# Altium schematic symbol library Connectors.SchLib: 130 symbols
Pins are listed as number, name and electrical type; pins without a type are passive.

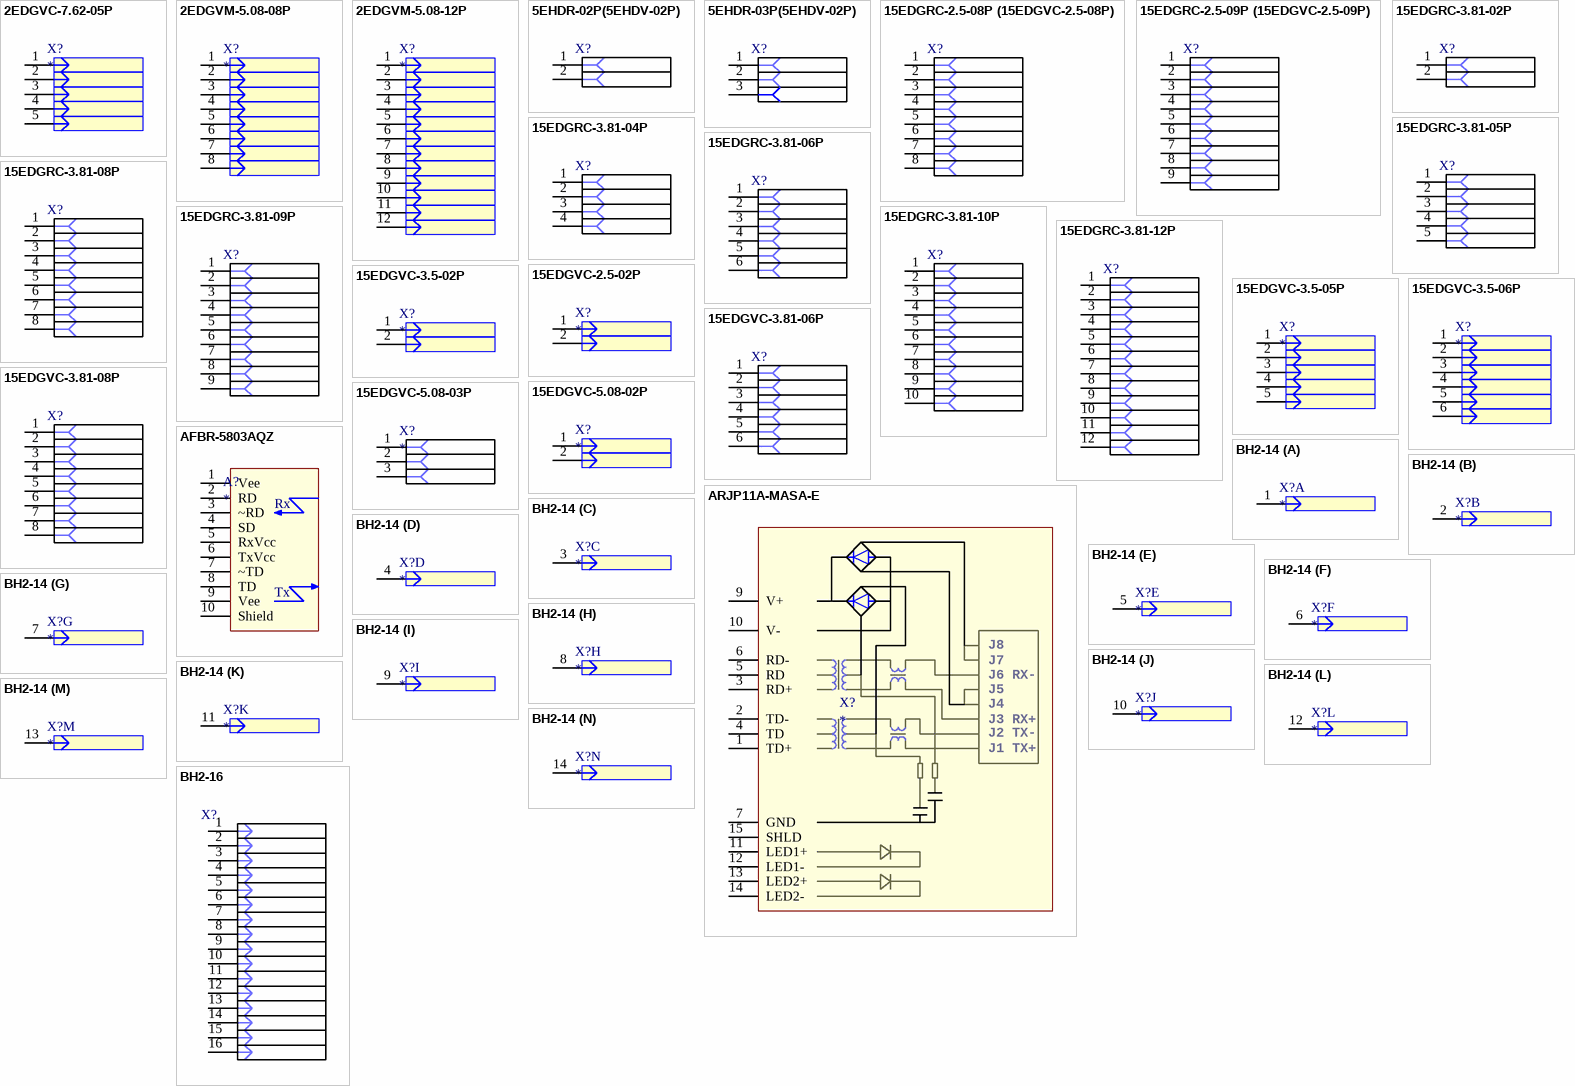
[diagram p0: symbols 2EDGVC-7.62-05P to BH2-16]

## 2EDGVC-7.62-05P
designator X?
CONNECTOR TERMINAL pitch=7.62mm; Part Number: Value; NumberSolderPointsSMD: 0; Описание: ???; Аналог: нет; NumberSolderPointsTHT: 0; Value: Value; ValueEx: ValueEx
footprint 2EDGVC-7.62-05P
pins: 1, 2, 3, 4, 5

## 2EDGVM-5.08-08P
designator X?
CONNECTOR TERMINAL pitch=5.08mm; Part Number: Value; Описание: ???; NumberSolderPointsSMD: 0; Аналог: нет; NumberSolderPointsTHT: 0; Value: Value; ValueEx: ValueEx
footprint 2EDGVM-5.08-08P
pins: 1, 2, 3, 4, 5, 6, 7, 8

## 2EDGVM-5.08-12P
designator X?
CONNECTOR TERMINAL pitch=5.08mm; Part Number: Value; Описание: ???; NumberSolderPointsSMD: 0; Аналог: нет; NumberSolderPointsTHT: 0; Value: Value; ValueEx: ValueEx
footprint 2EDGVM-5.08-12P
pins: 1, 2, 3, 4, 5, 6, 7, 8, 9, 10, 11, 12

## 5EHDR-02P(5EHDV-02P)
designator X?
CONNECTOR TERMINAL pitch=5mm; Part Number: Value; Аналог: 5ESDV-02P, 2EDGK-5.0-02P; Описание: Клеммник разъемный 5мм; NumberSolderPointsSMD: 0; Комплект: 5EHDR-02P(2EDGV-5.0-02P); NumberSolderPointsTHT: 0; Value: Value; ValueEx: ValueEx
footprint 5EHDR-02P
pins: 1, 2

## 5EHDR-03P(5EHDV-02P)
designator X?
CONNECTOR TERMINAL pitch=5mm; Part Number: Value; Аналог: 5EHDR-03P(2EDGV-5.0-03P); Описание: Клеммник разъемный 5мм; NumberSolderPointsSMD: 0; Комплект: 5ESDV-03P, 2EDGK-5.0-03P; NumberSolderPointsTHT: 0; Value: Value; ValueEx: ValueEx
footprint 5EHDR-03P
pins: 1, 2, 3

## 15EDGRC-2.5-08P (15EDGVC-2.5-08P)
designator X?
CONNECTOR TERMINAL pitch=2.5mm; Part Number: Value; Аналог: ECH250R-08P (ECH250V-08P); Описание: Клеммник разъемный 2.5мм; NumberSolderPointsSMD: 0; Комплект: ESC250V-08P, 15EDGKD-2.5-08P; NumberSolderPointsTHT: 0; Value: Value; ValueEx: ValueEx
footprint 15EDGRC-2.5-08
pins: 1, 2, 3, 4, 5, 6, 7, 8

## 15EDGRC-2.5-09P (15EDGVC-2.5-09P)
designator X?
CONNECTOR TERMINAL pitch=2.5mm; Part Number: Value; Аналог: ECH250R-09P (ECH250V-09P); Описание: Клеммник разъемный 2.5мм; NumberSolderPointsSMD: 0; Комплект: ESC250V-09P, 15EDGKD-2.5-09P; NumberSolderPointsTHT: 0; Value: Value; ValueEx: ValueEx
footprint 15EDGRC-2.5-09
pins: 1, 2, 3, 4, 5, 6, 7, 8, 9

## 15EDGRC-3.81-02P
designator X?
CONNECTOR TERMINAL pitch=3.81mm; Part Number: Value; Аналог: ECH381R-02P; Описание: Клеммник разъемный 3.81мм; NumberSolderPointsSMD: 0; Комплект: EC381V-02P, 15EDGK-3.81-02; NumberSolderPointsTHT: 0; Value: Value; ValueEx: ValueEx
footprint 15EDGRC-3.81-02
pins: 1, 2

## 15EDGRC-3.81-04P
designator X?
CONNECTOR TERMINAL pitch=3.81mm; Part Number: Value; Аналог: ECH381R-04P; Описание: Клеммник разъемный 3.81мм; NumberSolderPointsSMD: 0; Комплект: EC381V-04P, 15EDGK-3.81-04; NumberSolderPointsTHT: 0; Value: Value; ValueEx: ValueEx
footprint 15EDGRC-3.81-04
pins: 1, 2, 3, 4

## 15EDGRC-3.81-05P
designator X?
CONNECTOR TERMINAL pitch=3.81mm; Part Number: Value; Аналог: ECH381R-05P; Описание: Клеммник разъемный 3.81мм; NumberSolderPointsSMD: 0; Комплект: EC381V-05P, 15EDGK-3.81-05; NumberSolderPointsTHT: 0; Value: Value; ValueEx: ValueEx
footprint 15EDGRC-3.81-05
pins: 1, 2, 3, 4, 5

## 15EDGRC-3.81-06P
designator X?
CONNECTOR TERMINAL pitch=3.81mm; Part Number: Value; Аналог: ECH381R-06P; Описание: Клеммник разъемный 3.81мм; NumberSolderPointsSMD: 0; Комплект: EC381V-06P, 15EDGK-3.81-06; NumberSolderPointsTHT: 0; Value: Value; ValueEx: ValueEx
footprint 15EDGRC-3.81-06
pins: 1, 2, 3, 4, 5, 6

## 15EDGRC-3.81-08P
designator X?
CONNECTOR TERMINAL pitch=3.81mm; Part Number: Value; Аналог: ECH381R-08P; Описание: Клеммник разъемный 3.81мм; NumberSolderPointsSMD: 0; Комплект: EC381V-08P, 15EDGK-3.81-08; NumberSolderPointsTHT: 0; Value: Value; ValueEx: ValueEx
footprint 15EDGRC-3.81-08
pins: 1, 2, 3, 4, 5, 6, 7, 8

## 15EDGRC-3.81-09P
designator X?
CONNECTOR TERMINAL pitch=3.81mm; Part Number: Value; Аналог: ECH381R-09P; Описание: Клеммник разъемный 3.81мм; NumberSolderPointsSMD: 0; Комплект: EC381V-09P, 15EDGK-3.81-09; NumberSolderPointsTHT: 0; Value: Value; ValueEx: ValueEx
footprint 15EDGRC-3.81-09
pins: 1, 2, 3, 4, 5, 6, 7, 8, 9

## 15EDGRC-3.81-10P
designator X?
CONNECTOR TERMINAL pitch=3.81mm; Part Number: Value; Аналог: ECH381R-10P; Описание: Клеммник разъемный 3.81мм; NumberSolderPointsSMD: 0; Комплект: EC381V-10P, 15EDGK-3.81-10; NumberSolderPointsTHT: 0; Value: Value; ValueEx: ValueEx
footprint 15EDGRC-3.81-10
pins: 1, 2, 3, 4, 5, 6, 7, 8, 9, 10

## 15EDGRC-3.81-12P
designator X?
CONNECTOR TERMINAL pitch=3.81mm; Part Number: Value; Аналог: ECH381R-12P; Описание: Клеммник разъемный 3.81мм; NumberSolderPointsSMD: 0; Комплект: EC381V-12P, 15EDGK-3.81-12; NumberSolderPointsTHT: 0; Value: Value; ValueEx: ValueEx
footprint 15EDGRC-3.81-12
pins: 1, 2, 3, 4, 5, 6, 7, 8, 9, 10, 11, 12

## 15EDGVC-2.5-02P
designator X?
CONNECTOR TERMINAL pitch=2.5mm; Part Number: Value; Описание: ???; NumberSolderPointsSMD: 0; Аналог: нет; NumberSolderPointsTHT: 0; Value: Value; ValueEx: ValueEx
footprint 15EDGVC-2.5-02P
pins: 1, 2

## 15EDGVC-3.5-02P
designator X?
CONNECTOR TERMINAL pitch=3.5mm; Part Number: Value; Описание: ???; NumberSolderPointsSMD: 0; Аналог: нет; NumberSolderPointsTHT: 0; Value: Value; ValueEx: ValueEx
footprint 15EDGVC-3.5-02P
pins: 1, 2

## 15EDGVC-3.5-05P
designator X?
CONNECTOR TERMINAL pitch=3.5mm; Part Number: Value; Описание: ???; NumberSolderPointsSMD: 0; Аналог: нет; NumberSolderPointsTHT: 0; Value: Value; ValueEx: ValueEx
footprint 15EDGVC-3.5-05P
pins: 1, 2, 3, 4, 5

## 15EDGVC-3.5-06P
designator X?
CONNECTOR TERMINAL pitch=3.5mm; Part Number: Value; Описание: ???; NumberSolderPointsSMD: 0; Аналог: нет; NumberSolderPointsTHT: 0; Value: Value; ValueEx: ValueEx
footprint 15EDGVC-3.5-06P
pins: 1, 2, 3, 4, 5, 6

## 15EDGVC-3.81-06P
designator X?
CONNECTOR TERMINAL pitch=3.81mm; Part Number: Value; Описание: ???; NumberSolderPointsSMD: 0; Аналог: нет; NumberSolderPointsTHT: 0; Value: Value; ValueEx: ValueEx
footprint 15EDGVC-3.81-06
pins: 1, 2, 3, 4, 5, 6

## 15EDGVC-3.81-08P
designator X?
CONNECTOR TERMINAL pitch=3.81mm; Part Number: Value; Описание: ???; NumberSolderPointsSMD: 0; Аналог: нет; NumberSolderPointsTHT: 0; Value: Value; ValueEx: ValueEx
pins: 1, 2, 3, 4, 5, 6, 7, 8

## 15EDGVC-5.08-02P
designator X?
CONNECTOR TERMINAL pitch=5.08mm; Part Number: Value; Описание: ???; NumberSolderPointsSMD: 0; Аналог: нет; NumberSolderPointsTHT: 0; Value: Value; ValueEx: ValueEx
footprint 15EDGVC-5.08-02P
pins: 1, 2

## 15EDGVC-5.08-03P
designator X?
CONNECTOR TERMINAL pitch=5.08mm; Part Number: Value; Описание: ???; NumberSolderPointsSMD: 0; Аналог: нет; NumberSolderPointsTHT: 0; Value: Value; ValueEx: ValueEx
footprint 15EDGVC-5.08-03P
pins: 1, 2, 3

## AFBR-5803AQZ
designator A?
CONNECTOR FIBER Fast Ethernet Transceiver with duplex SC connector; Part Number: Value; Описание: ???; NumberSolderPointsSMD: 0; Аналог: нет; NumberSolderPointsTHT: 0; Value: Value; ValueEx: ValueEx
footprint AFBR-5803AQZ
pins: 1 Vee, 2 RD, 3 ~RD, 4 SD, 5 RxVcc, 6 TxVcc, 7 ~TD, 8 TD, 9 Vee, 10 Shield
text: Rx; Tx

## ARJP11A-MASA-E
designator X?
CONNECTOR RJ45; Part Number: Value; Описание: ???; NumberSolderPointsSMD: 0; Аналог: нет; NumberSolderPointsTHT: 0; Value: Value; ValueEx: ValueEx
footprint ARJP11A-MASA-E
pins: 1 TD+, 2 TD-, 3 RD+, 4 TD, 5 RD, 6 RD-, 7 GND, 9 V+, 10 V-, 11 LED1+, 12 LED1-, 13 LED2+, 14 LED2-, 15 SHLD
text: J8; J7; J6 RX-; J5; J4; J3 RX+; J2 TX-; J1 TX+

## BH2-14
designator X?
CONNECTOR 2mm pitch , male; Part Number: Value; Описание: ???; NumberSolderPointsSMD: 0; Аналог: нет; NumberSolderPointsTHT: 0; Value: Value; ValueEx: ValueEx
footprint BH2-14
part A pins: 1
part B pins: 2
part C pins: 3
part D pins: 4  
part E pins: 5
part F pins: 6
part G pins: 7
part H pins: 8
part I pins: 9
part J pins: 10
part K pins: 11
part L pins: 12
part M pins: 13
part N pins: 14

## BH2-16
designator X?
CONNECTOR; Part Number: Value; Описание: ???; Value: Value; ValueEx: ValueEx
footprint BH2-16
pins: 1, 2, 3, 4, 5, 6, 7, 8, 9, 10, 11, 12, 13, 14, 15, 16

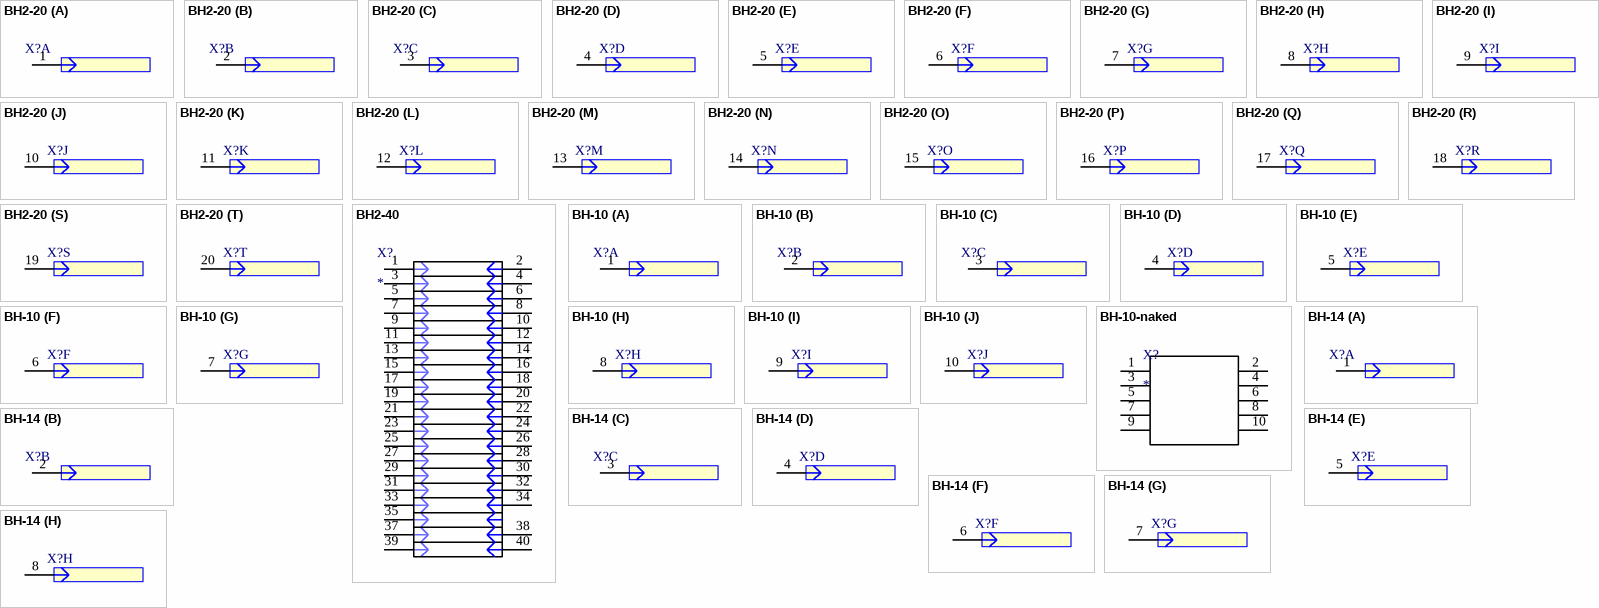
[diagram p1: symbols BH2-20 to BH-14]

## BH2-20
designator X?
CONNECTOR 2mm pitch , male; Part Number: Value; Описание: ???; NumberSolderPointsSMD: 0; Аналог: нет; NumberSolderPointsTHT: 0; Value: Value; ValueEx: ValueEx
footprint BH2-20
part A pins: 1
part B pins: 2
part C pins: 3
part D pins: 4
part E pins: 5
part F pins: 6
part G pins: 7
part H pins: 8
part I pins: 9
part J pins: 10
part K pins: 11
part L pins: 12
part M pins: 13
part N pins: 14
part O pins: 15
part P pins: 16
part Q pins: 17
part R pins: 18
part S pins: 19
part T pins: 20

## BH2-40
designator X?
CONNECTOR; Part Number: Value; Описание: ???; Value: Value; ValueEx: ValueEx
footprint BH2-40
pins: 1, 2, 3, 4, 5, 6, 7, 8, 9, 10, 11, 12, 13, 14, 15, 16, 17, 18, 19, 20, 21, 22, 23, 24, 25, 26, 27, 28, 29, 30, 31, 32, 33, 34, 35, 36 hidden, 37, 38, 39, 40

## BH-10
designator X?  (value not drawn)
CONNECTOR 2.54mm pitch , male; Part Number: Value; Описание: ???; NumberSolderPointsSMD: 0; Аналог: нет; NumberSolderPointsTHT: 0; Value: Value; ValueEx: ValueEx
footprint BH-10
part A pins: 1
part B pins: 2
part C pins: 3
part D pins: 4
part E pins: 5
part F pins: 6
part G pins: 7
part H pins: 8
part I pins: 9
part J pins: 10

## BH-10-naked
designator X?
CONNECTOR; Part Number: Value; Описание: Штыри 2x5 шаг 2.54мм; Value: Value; ValueEx: ValueEx
footprint BH-10 NAKED
pins: 1, 2, 3, 4, 5, 6, 7, 8, 9, 10

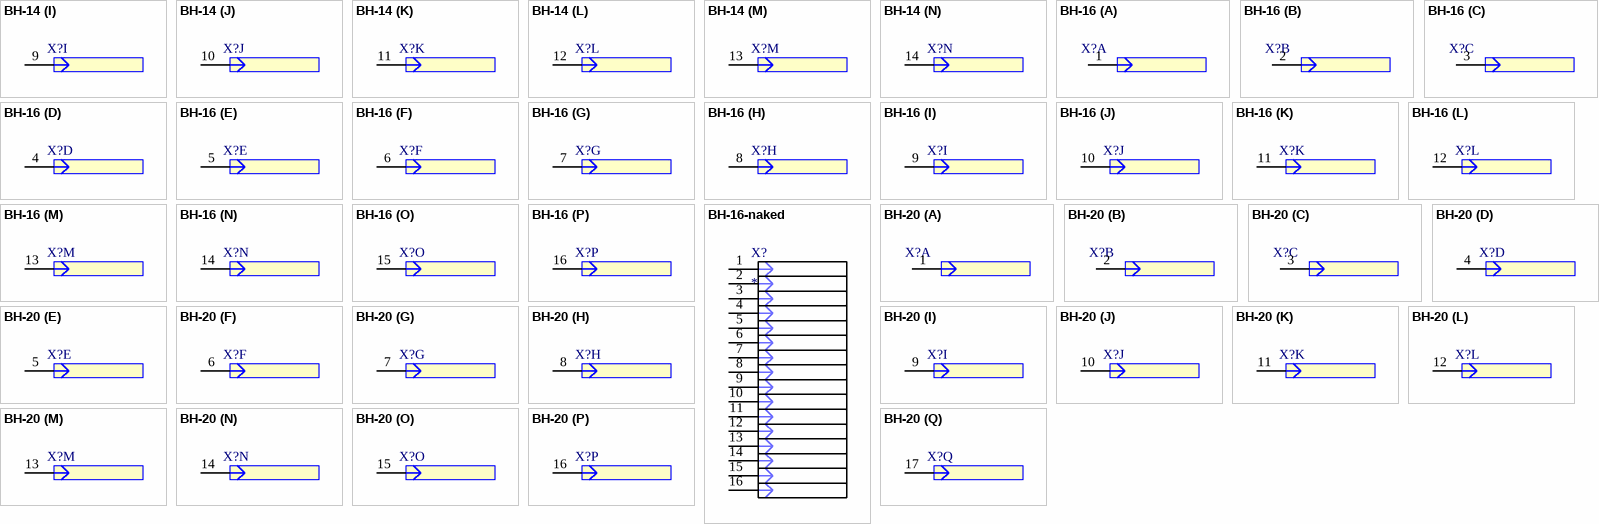
[diagram p2: symbols BH-14 to BH-20]

## BH-14
designator X?  (value not drawn)
CONNECTOR 2.54mm pitch , male; Part Number: Value; Описание: ???; NumberSolderPointsSMD: 0; Аналог: нет; NumberSolderPointsTHT: 0; Value: Value; ValueEx: ValueEx
footprint BH-14
part A pins: 1
part B pins: 2
part C pins: 3
part D pins: 4
part E pins: 5
part F pins: 6
part G pins: 7
part H pins: 8
part I pins: 9
part J pins: 10
part K pins: 11
part L pins: 12
part M pins: 13
part N pins: 14

## BH-16
designator X?  (value not drawn)
CONNECTOR 2.54mm pitch , male; Part Number: Value; Описание: ???; NumberSolderPointsSMD: 0; Аналог: нет; NumberSolderPointsTHT: 0; Value: Value; ValueEx: ValueEx
footprint BH-16
part A pins: 1
part B pins: 2
part C pins: 3
part D pins: 4
part E pins: 5
part F pins: 6
part G pins: 7
part H pins: 8
part I pins: 9
part J pins: 10
part K pins: 11
part L pins: 12
part M pins: 13
part N pins: 14
part O pins: 15
part P pins: 16

## BH-16-naked
designator X?
CONNECTOR; Part Number: Value; Описание: Штыри 2x8 шаг 2.54мм; Value: Value; ValueEx: ValueEx
footprint BH-16 NAKED
pins: 1, 2, 3, 4, 5, 6, 7, 8, 9, 10, 11, 12, 13, 14, 15, 16

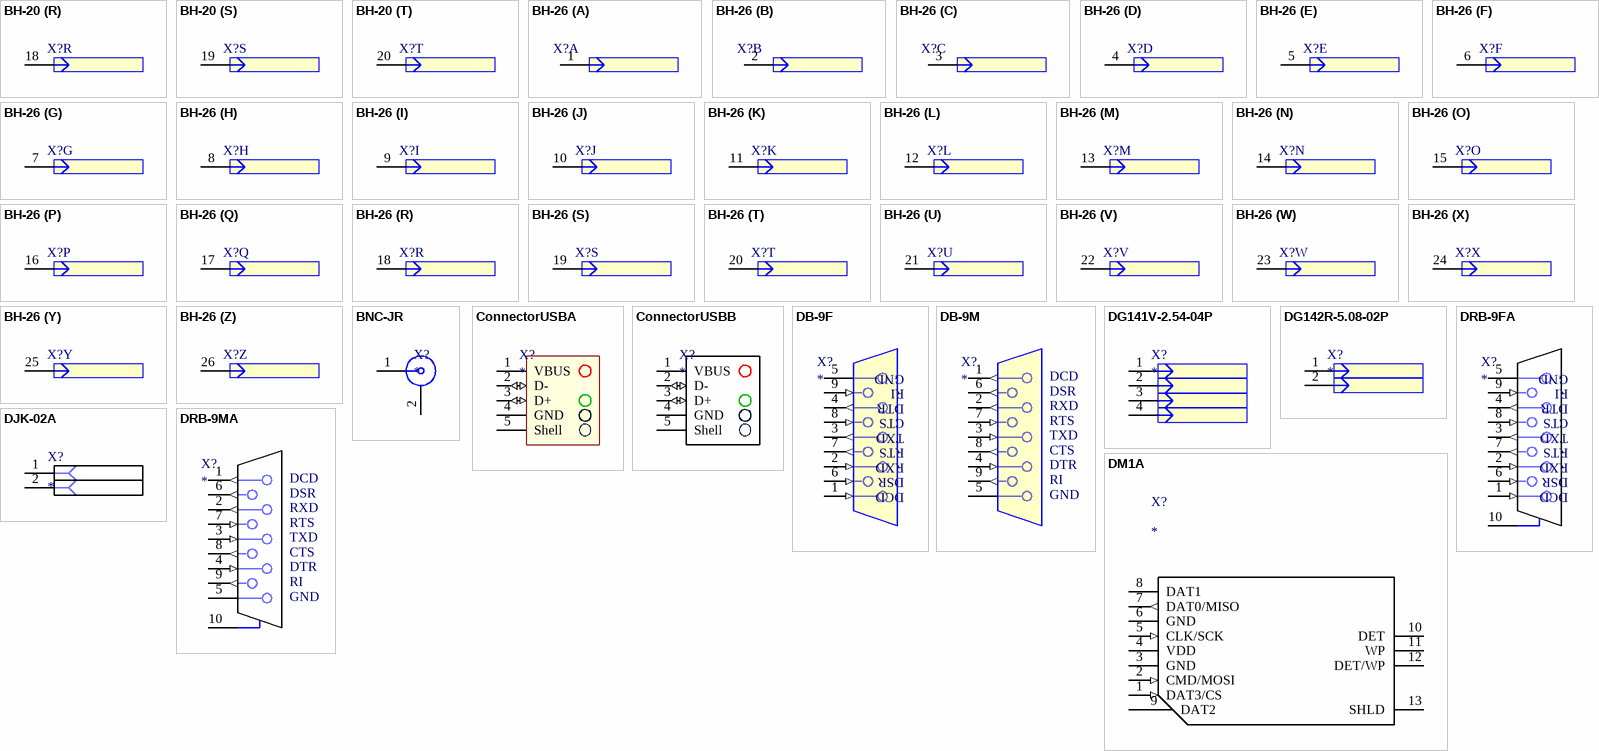
[diagram p3: symbols BH-20 to DRB-9MA]

## BH-20
designator X?
CONNECTOR 2.54mm pitch , male; Part Number: Value; Описание: ???; NumberSolderPointsSMD: 0; Аналог: нет; NumberSolderPointsTHT: 0; Value: Value; ValueEx: ValueEx
footprint BH-20
part A pins: 1
part B pins: 2
part C pins: 3
part D pins: 4
part E pins: 5
part F pins: 6
part G pins: 7
part H pins: 8
part I pins: 9
part J pins: 10
part K pins: 11
part L pins: 12
part M pins: 13
part N pins: 14
part O pins: 15
part P pins: 16
part Q pins: 17
part R pins: 18
part S pins: 19
part T pins: 20

## BH-26
designator X?
CONNECTOR 2.54mm pitch , male; Part Number: Value; Описание: ???; NumberSolderPointsSMD: 0; Аналог: нет; NumberSolderPointsTHT: 0; Value: Value; ValueEx: ValueEx
footprint BH-26
part A pins: 1
part B pins: 2
part C pins: 3
part D pins: 4
part E pins: 5
part F pins: 6
part G pins: 7
part H pins: 8
part I pins: 9
part J pins: 10
part K pins: 11
part L pins: 12
part M pins: 13
part N pins: 14
part O pins: 15
part P pins: 16
part Q pins: 17
part R pins: 18
part S pins: 19
part T pins: 20
part U pins: 21
part V pins: 22
part W pins: 23
part X pins: 24
part Y pins: 25
part Z pins: 26

## BNC-JR
designator X?
CONNECTOR BNC connector - angle plug; Part Number: Value; Описание: Разъем BNC; NumberSolderPointsSMD: 0; Аналог: нет; NumberSolderPointsTHT: 0; Value: Value; ValueEx: ValueEx
footprint BNC-JR
pins: 1, 2

## ConnectorUSBA
designator X?
CONNECTOR USB type A connector (through-hole); Part Number: Value; Описание: Разъем; NumberSolderPointsSMD: 0; Аналог: нет; NumberSolderPointsTHT: 0; Value: Value; ValueEx: ValueEx
footprint ConnectorUSBA
pins: 1 VBUS (power), 2 D- (io), 3 D+ (io), 4 GND (power), 5 Shell

## ConnectorUSBB
designator X?
CONNECTOR USB type B connector (through-hole); Part Number: Value; Описание: Разъем; NumberSolderPointsSMD: 0; Аналог: нет; NumberSolderPointsTHT: 0; Value: Value; ValueEx: ValueEx
footprint ConnectorUSBB
pins: 1 VBUS (power), 2 D- (io), 3 D+ (io), 4 GND (power), 5 Shell

## DB-9F
designator X?
CONNECTOR; Part Number: Value; Описание: ???; NumberSolderPointsSMD: 0; Аналог: нет; NumberSolderPointsTHT: 0; Value: Value; ValueEx: ValueEx
footprint DB-9F
pins: 1 (in), 2 (in), 3 (out), 4 (out), 5 (power), 6 (in), 7 (out), 8 (in), 9 (in)
text: GND; RI; DTR; CTS; TXD; RTS; RXD; DSR; DCD

## DB-9M
designator X?
CONNECTOR; Part Number: Value; Описание: ???; NumberSolderPointsSMD: 0; Аналог: нет; NumberSolderPointsTHT: 0; Value: Value; ValueEx: ValueEx
footprint DB-9M
pins: 1 (out), 2 (out), 3 (in), 4 (in), 5 (power), 6 (out), 7 (in), 8 (out), 9 (out)
text: DCD; DSR; RXD; RTS; TXD; CTS; DTR; RI; GND

## DG141V-2.54-04P
designator X?
CONNECTOR TERMINAL pitch=2.54mm; Part Number: Value; Описание: ???; NumberSolderPointsSMD: 0; Аналог: нет; NumberSolderPointsTHT: 0; Value: Value; ValueEx: ValueEx
footprint DG141V-2.54-04P
pins: 1, 2, 3, 4

## DG142R-5.08-02P
designator X?
CONNECTOR TERMINAL; Part Number: Value; Описание: ???; NumberSolderPointsSMD: 0; Аналог: нет; NumberSolderPointsTHT: 0; Value: Value; ValueEx: ValueEx
footprint DG142R-5.08-02P
pins: 1, 2

## DJK-02A
designator X?
CONNECTOR; Part Number: Value; Описание: Разъем питания; Value: Value; ValueEx: ValueEx
footprint DJK-02A
pins: 1, 2

## DM1A
designator X?
CONNECTOR SD card connector; Part Number: Value; Описание: ???; NumberSolderPointsSMD: 0; Аналог: нет; NumberSolderPointsTHT: 0; Value: Value; ValueEx: ValueEx
footprint DM1A (SD card connector)
pins: 1 DAT3/CS (in), 2 CMD/MOSI (in), 3 GND, 4 VDD, 5 CLK/SCK (in), 6 GND, 7 DAT0/MISO (out), 8 DAT1, 9 DAT2, 10 DET, 11 WP, 12 DET/WP, 13 SHLD

## DRB-9FA
designator X?
CONNECTOR; Part Number: Value; Описание: ???; NumberSolderPointsSMD: 0; Аналог: нет; NumberSolderPointsTHT: 0; Value: Value; ValueEx: ValueEx
footprint DRB-9FA
pins: 1 (in), 2 (in), 3 (out), 4 (out), 5 (power), 6 (in), 7 (out), 8 (in), 9 (in), 10
text: GND; RI; DTR; CTS; TXD; RTS; RXD; DSR; DCD

## DRB-9MA
designator X?
CONNECTOR; Part Number: Value; Описание: ???; NumberSolderPointsSMD: 0; Аналог: нет; NumberSolderPointsTHT: 0; Value: Value; ValueEx: ValueEx
footprint DRB-9MA
pins: 1 (out), 2 (out), 3 (in), 4 (in), 5 (power), 6 (out), 7 (in), 8 (out), 9 (out), 10
text: DCD; DSR; RXD; RTS; TXD; CTS; DTR; RI; GND

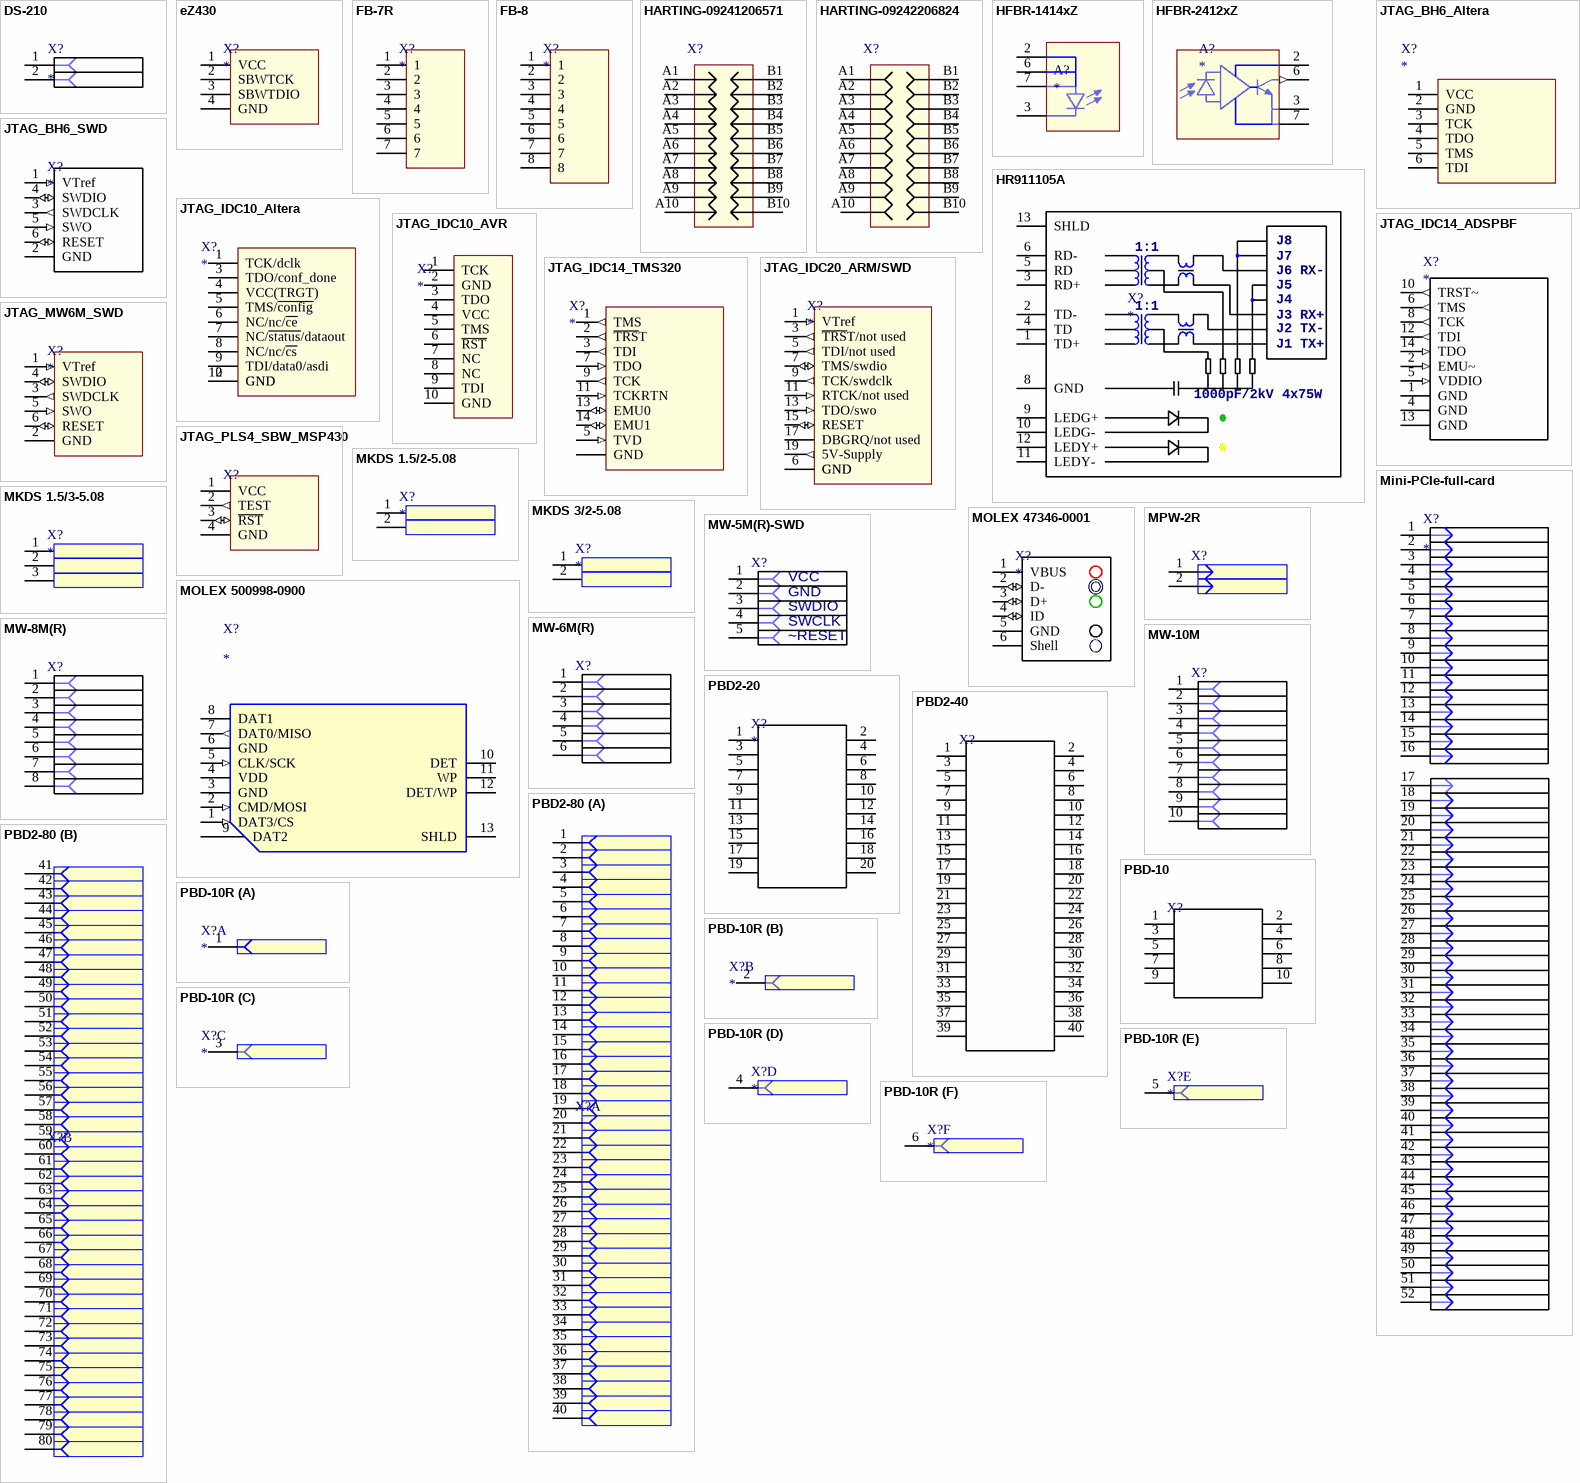
[diagram p4: symbols DS-210 to PBD-10R]

## DS-210
designator X?
CONNECTOR; Part Number: Value; Описание: Разъем питания DC; x: DS-210, DJK-02A; Value: Value; ValueEx: ValueEx
footprint DCPowerJack DS-210
pins: 1, 2

## eZ430
designator X?
CONNECTOR PROGRAM; Part Number: Value; Описание: ???; NumberSolderPointsSMD: 0; Аналог: нет; NumberSolderPointsTHT: 0; Value: Value; ValueEx: ValueEx
footprint eZ430
pins: 1 VCC, 2 SBWTCK, 3 SBWTDIO, 4 GND

## FB-7R
designator X?
CONNECTOR FFC pitch=2.54mm; Part Number: Value; Описание: ???; NumberSolderPointsSMD: 0; Аналог: нет; NumberSolderPointsTHT: 0; Value: Value; ValueEx: ValueEx
footprint FB-7R
pins: 1, 2, 3, 4, 5, 6, 7

## FB-8
designator X?
CONNECTOR FFC pitch=2.54mm; Part Number: Value; Описание: ???; NumberSolderPointsSMD: 0; Аналог: нет; NumberSolderPointsTHT: 0; Value: Value; ValueEx: ValueEx
footprint FB-8
pins: 1, 2, 3, 4, 5, 6, 7, 8

## HARTING-09241206571
designator X?  (value not drawn)
CONNECTOR DIN41612 20-pin male connector without flange; Part Number: Value; Описание: ???; NumberSolderPointsSMD: 0; Аналог: нет; NumberSolderPointsTHT: 0; Value: Value; ValueEx: ValueEx
footprint HARTING-09241206571
pins: A1  , A2  , A3  , A4  , A5  , A6  , A7  , A8  , A9  , A10  , B1  , B2  , B3  , B4  , B5  , B6  , B7  , B8  , B9  , B10  

## HARTING-09242206824
designator X?  (value not drawn)
CONNECTOR DIN41612 20-pin female connector with flange; Part Number: Value; Описание: ???; NumberSolderPointsSMD: 0; Аналог: нет; NumberSolderPointsTHT: 0; Value: Value; ValueEx: ValueEx
footprint HARTING-09242206824
pins: A1  , A2  , A3  , A4  , A5  , A6  , A7  , A8  , A9  , A10  , B1  , B2  , B3  , B4  , B5  , B6  , B7  , B8  , B9  , B10  

## HFBR-1414xZ
designator A?
CONNECTOR FIBER 820 nm ST-connector transmitter; Part Number: Value; Описание: ???; NumberSolderPointsSMD: 0; Аналог: нет; NumberSolderPointsTHT: 0; Value: Value; ValueEx: ValueEx
footprint HFBR-x41xZ
pins: 2, 3, 6, 7

## HFBR-2412xZ
designator A?
CONNECTOR FIBER 820 nm ST-connector receiver; Part Number: Value; Описание: ???; NumberSolderPointsSMD: 0; Аналог: нет; NumberSolderPointsTHT: 0; Value: Value; ValueEx: ValueEx
footprint HFBR-x41xZ
pins: 2 (power), 3 (power), 6 (out), 7 (power)

## HR911105A
designator X?
CONNECTOR RJ45; Part Number: Value; Описание: Разъем; NumberSolderPointsSMD: 0; Аналог: нет; NumberSolderPointsTHT: 0; Value: Value; ValueEx: ValueEx
footprint HR911105A
pins: 1 TD+, 2 TD-, 3 RD+, 4 TD, 5 RD, 6 RD-, 8 GND, 9 LEDG+, 10 LEDG-, 11 LEDY-, 12 LEDY+, 13 SHLD
text: J8; 1:1; J7; J6 RX-; J5; J4; J3 RX+; J2 TX-; J1 TX+; 1000pF/2kV; 4x75W

## JTAG_BH6_Altera
designator X?
CONNECTOR PROGRAM  Altera ByteBlaster 10-Pin Header JTAG/PS/AS; Part Number: Value; Описание: ???; NumberSolderPointsSMD: 0; Аналог: нет; NumberSolderPointsTHT: 0; Value: Value; ValueEx: ValueEx
footprint BH-6 Naked
pins: 1 VCC, 2 GND, 3 TCK, 4 TDO, 5 TMS, 6 TDI

## JTAG_BH6_SWD
designator X?
CONNECTOR PROGRAM 6-pin SWD connector; Part Number: Value; Описание: ???; NumberSolderPointsSMD: 0; Аналог: нет; NumberSolderPointsTHT: 0; Value: Value; ValueEx: ValueEx
footprint BH-6 Naked
pins: 1 VTref (in), 2 GND (power), 3 SWDCLK (out), 4 SWDIO (io), 5 SWO (in), 6 RESET (io)

## JTAG_IDC10_Altera
designator X?
CONNECTOR PROGRAM  Altera ByteBlaster 10-Pin Header JTAG/PS/AS; Part Number: Value; Описание: ???; NumberSolderPointsSMD: 0; Аналог: нет; NumberSolderPointsTHT: 0; Value: Value; ValueEx: ValueEx
footprint BH-10 NAKED
pins: 1 TCK/dclk, 2 GND, 3 TDO/conf_done, 4 VCC(TRGT), 5 TMS/~{config}, 6 NC/nc/~{ce}, 7 NC/~{status}/dataout, 8 NC/nc/~{cs}, 9 TDI/data0/asdi, 10 GND

## JTAG_IDC10_AVR
designator X?
CONNECTOR PROGRAM Atmel AVR 10-Pin Header JTAG (AVR-Dragon); Part Number: Value; Описание: ???; NumberSolderPointsSMD: 0; Аналог: нет; NumberSolderPointsTHT: 0; Value: Value; ValueEx: ValueEx
footprint BH-10
pins: 1 TCK, 2 GND, 3 TDO, 4 VCC, 5 TMS, 6 ~{RST}, 7 NC, 8 NC, 9 TDI, 10 GND

## JTAG_IDC14_ADSPBF
designator X?  (no BOM)
CONNECTOR PROGRAM 14-pin JTAG connector for ADSP Blackfin; Part Number: Value; Описание: ???; NumberSolderPointsSMD: 0; Аналог: нет; NumberSolderPointsTHT: 0; Value: Value; ValueEx: ValueEx
footprint JTAG_IDC14_ADSPBF
footprint JTAG_IDC14_ADSPBF(notSoldered)
pins: 1 GND (power), 2 EMU~ (in), 4 GND (power), 5 VDDIO (in), 6 TMS (out), 8 TCK (out), 10 TRST~ (out), 12 TDI (out), 13 GND (power), 14 TDO (in)

## JTAG_IDC14_TMS320
designator X?
CONNECTOR PROGRAM 14-pin JTAG connector for TMS320/OMAP; Part Number: Value; Описание: ???; NumberSolderPointsSMD: 0; Аналог: нет; NumberSolderPointsTHT: 0; Value: Value; ValueEx: ValueEx
footprint JTAG_IDC14_TMS320
pins: 1 TMS (out), 2 ~{TRS}T (out), 3 TDI (out), 4 GND (power), 5 TVD (in), 7 TDO (in), 8 GND, 9 TCK (out), 10 GND, 11 TCKRTN (in), 12 GND, 13 EMU0 (io), 14 EMU1 (io)

## JTAG_IDC20_ARM/SWD
designator X?
CONNECTOR PROGRAM 20-pin JTAG/SWD connector; Part Number: Value; Описание: ???; NumberSolderPointsSMD: 0; Аналог: нет; NumberSolderPointsTHT: 0; Value: Value; ValueEx: ValueEx
footprint BH-20
pins: 1 VTref (in), 3 ~{TRS}T/not used (out), 4 GND (power), 5 TDI/not used (out), 6 GND (power), 7 TMS/swdio (io), 8 GND (power), 9 TCK/swdclk (out), 10 GND (power), 11 RTCK/not used (in), 12 GND (power), 13 TDO/swo (in), 14 GND (power), 15 RESET (io), 16 GND (power), 17 DBGRQ/not used, 18 GND (power), 19 5V-Supply (out), 20 GND (power)

## JTAG_MW6M_SWD
designator X?
CONNECTOR PROGRAM 5-pin SWD connector; Part Number: Value; Описание: ???; NumberSolderPointsSMD: 0; Аналог: нет; NumberSolderPointsTHT: 0; Value: Value; ValueEx: ValueEx
footprint MW-6M
pins: 1 VTref (in), 2 GND (power), 3 SWDCLK (out), 4 SWDIO (io), 5 SWO (in), 6 RESET (io)

## JTAG_PLS4_SBW_MSP430
designator X?  (value not drawn)
CONNECTOR PROGRAM SBW for MSP430; Part Number: Value; Описание: ???; NumberSolderPointsSMD: 0; Аналог: нет; NumberSolderPointsTHT: 0; Value: Value; ValueEx: ValueEx
footprint PLS-4
pins: 1 VCC (power), 2 TEST (out), 3 ~{RST} (io), 4 GND (power)

## Mini-PCIe-full-card
designator X?  (no BOM)
CONNECTOR; Part Number: Value; Описание: Слот Mini-PCIe (full); Value: Value; ValueEx: ValueEx
footprint Mini-PCIe-full-card
pins: 1, 2, 3, 4, 5, 6, 7, 8, 9, 10, 11, 12, 13, 14, 15, 16, 17, 18, 19, 20, 21, 22, 23, 24, 25, 26, 27, 28, 29, 30, 31, 32, 33, 34, 35, 36, 37, 38, 39, 40, 41, 42, 43, 44, 45, 46, 47, 48, 49, 50, 51, 52

## MKDS 1.5/2-5.08
designator X?
CONNECTOR TERMINAL pitch=5.08mm; Part Number: Value; Описание: ???; NumberSolderPointsSMD: 0; Аналог: нет; NumberSolderPointsTHT: 0; Value: Value; ValueEx: ValueEx
footprint MKDS 1.5/2-5.08
pins: 1, 2

## MKDS 1.5/3-5.08
designator X?
CONNECTOR TERMINAL pitch=5.08mm; Part Number: Value; Описание: ???; NumberSolderPointsSMD: 0; Аналог: нет; NumberSolderPointsTHT: 0; Value: Value; ValueEx: ValueEx
footprint MKDS 1.5/3-5.08
pins: 1, 2, 3

## MKDS 3/2-5.08
designator X?
CONNECTOR TERMINAL pitch=5.08mm; Part Number: Value; Описание: ???; NumberSolderPointsSMD: 0; Аналог: нет; NumberSolderPointsTHT: 0; Value: Value; ValueEx: ValueEx
footprint MKDS 3/2-5.08
pins: 1, 2

## MOLEX 47346-0001
designator X?
CONNECTOR USB micro B; Part Number: Value; Описание: Разъем USB micro; NumberSolderPointsSMD: 0; Аналог: нет; NumberSolderPointsTHT: 0; x: *; Value: Value; ValueEx: ValueEx
footprint MOLEX 47346-0001
pins: 1 VBUS (power), 2 D- (io), 3 D+ (io), 4 ID (io), 5 GND, 6 Shell

## MOLEX 500998-0900
designator X?
CONNECTOR SD card connector; Part Number: Value; Описание: Разъем - держатель карты SD/MMC; NumberSolderPointsSMD: 0; Аналог: нет; NumberSolderPointsTHT: 0; Value: Value; ValueEx: ValueEx
footprint MOLEX 500998-0900
pins: 1 DAT3/CS (in), 2 CMD/MOSI (in), 3 GND, 4 VDD, 5 CLK/SCK (in), 6 GND, 7 DAT0/MISO (out), 8 DAT1, 9 DAT2, 10 DET, 11 WP, 12 DET/WP, 13 SHLD

## MPW-2R
designator X?  (value not drawn)
CONNECTOR 5.08mm; Part Number: Value; Описание: Разъем; NumberSolderPointsSMD: 0; Аналог: нет; NumberSolderPointsTHT: 0; Value: Value; ValueEx: ValueEx
footprint MPW-2R
pins: 1, 2

## MW-5M(R)-SWD
designator X?
CONNECTOR pitch=2mm; Part Number: Value; Описание: Разъем, вилка на плату, шаг 2.0мм; NumberSolderPointsSMD: 6; NumberSolderPointsTHT: 0; Аналог: нет; Комплект: MU-5F,DS1066-5 F; x: MW-5M,MW-5MR,DS1066-5 MV,DS1066-5 MR; Value: Value; ValueEx: ValueEx
footprint MW-5M(normal)
footprint MW-5MR(normal)
footprint MW-5M(edge1.5mm)
pins: 1, 2, 3, 4, 5
text: VCC; GND; SWDIO; SWCLK; ~RESET

## MW-6M(R)
designator X?
CONNECTOR pitch=2mm; Part Number: Value; Описание: Разъем, вилка на плату, шаг 2.0мм; NumberSolderPointsSMD: 6; NumberSolderPointsTHT: 0; Аналог: нет; Комплект: MU-6F; Value: Value; ValueEx: ValueEx
footprint MW-6M(edge1.5mm)
footprint MW-6M(normal)
footprint MW-6MR(normal)
pins: 1, 2, 3, 4, 5, 6

## MW-8M(R)
designator X?
CONNECTOR pitch=2mm; Part Number: Value; Описание: Разъем, вилка на плату, шаг 2.0мм; NumberSolderPointsSMD: 8; NumberSolderPointsTHT: 0; Аналог: нет; Комплект: MU-8F; Value: Value; ValueEx: ValueEx
footprint MW-8M(edge1.5mm)
footprint MW-8M(normal)
footprint MW-8MR(normal)
pins: 1, 2, 3, 4, 5, 6, 7, 8

## MW-10M
designator X?
CONNECTOR pitch=2mm; Part Number: Value; Описание: Разъем, вилка на плату, шаг 2.0мм; NumberSolderPointsSMD: 10; NumberSolderPointsTHT: 0; Аналог: нет; Комплект: MU-10F; Value: Value; ValueEx: ValueEx
footprint MW-10M(edge1.5mm)
pins: 1, 2, 3, 4, 5, 6, 7, 8, 9, 10

## PBD2-20
designator X?
CONNECTOR 2mm pitch , female; Part Number: Value; Описание: ???; NumberSolderPointsSMD: 0; Аналог: нет; NumberSolderPointsTHT: 0; Value: Value; ValueEx: ValueEx
footprint PBD2-20 (2mm pitch female)
pins: 1, 2, 3, 4, 5, 6, 7, 8, 9, 10, 11, 12, 13, 14, 15, 16, 17, 18, 19, 20

## PBD2-40
designator X?
CONNECTOR 2mm pitch , female; Part Number: Value; Описание: ???; NumberSolderPointsSMD: 0; Аналог: нет; NumberSolderPointsTHT: 0; Value: Value; ValueEx: ValueEx
footprint PBD2-40 (2mm pitch female)
pins: 1, 2, 3, 4, 5, 6, 7, 8, 9, 10, 11, 12, 13, 14, 15, 16, 17, 18, 19, 20, 21, 22, 23, 24, 25, 26, 27, 28, 29, 30, 31, 32, 33, 34, 35, 36, 37, 38, 39, 40

## PBD2-80
designator X?
CONNECTOR 2mm pitch , female; Part Number: Value; Описание: ???; NumberSolderPointsSMD: 0; Аналог: нет; NumberSolderPointsTHT: 0; Value: Value; ValueEx: ValueEx
footprint PBD2-80
part A pins: 1, 2, 3, 4, 5, 6, 7, 8, 9, 10, 11, 12, 13, 14, 15, 16, 17, 18, 19, 20, 21, 22, 23, 24, 25, 26, 27, 28, 29, 30, 31, 32, 33, 34, 35, 36, 37, 38, 39, 40
part B pins: 41, 42, 43, 44, 45, 46, 47, 48, 49, 50, 51, 52, 53, 54, 55, 56, 57, 58, 59, 60, 61, 62, 63, 64, 65, 66, 67, 68, 69, 70, 71, 72, 73, 74, 75, 76, 77, 78, 79, 80

## PBD-10
designator X?  (value not drawn)
CONNECTOR; Part Number: Value; Описание: Гнезда 2x5 шаг 2.54мм; NumberSolderPointsSMD: 0; Аналог: нет; NumberSolderPointsTHT: 0; Value: Value; ValueEx: ValueEx
footprint PBD-10
pins: 1, 2, 3, 4, 5, 6, 7, 8, 9, 10

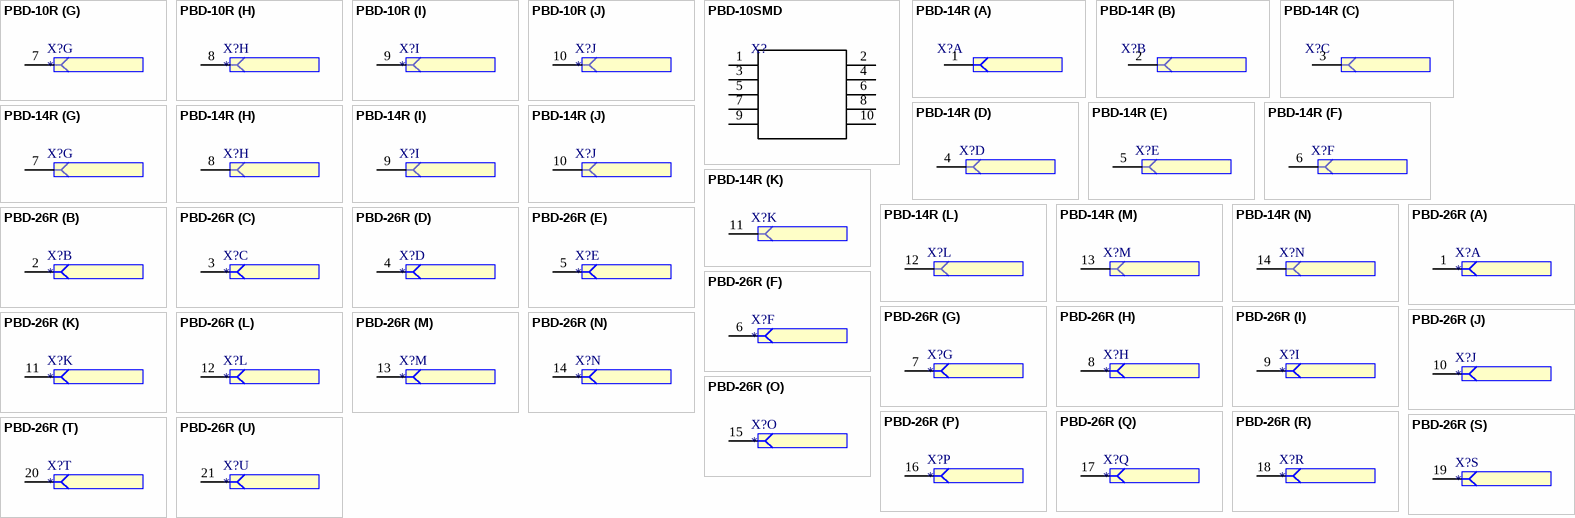
[diagram p5: symbols PBD-10R to PBD-26R]

## PBD-10R
designator X?
CONNECTOR 2.54mm pitch , angled , female; Part Number: Value; Описание: ???; NumberSolderPointsSMD: 0; Аналог: нет; NumberSolderPointsTHT: 0; Value: Value; ValueEx: ValueEx
footprint PBD-10R
part A pins: 1
part B pins: 2
part C pins: 3
part D pins: 4
part E pins: 5
part F pins: 6
part G pins: 7
part H pins: 8
part I pins: 9
part J pins: 10

## PBD-10SMD
designator X?  (value not drawn)
CONNECTOR; Part Number: Value; Описание: ???; NumberSolderPointsSMD: 0; Аналог: нет; NumberSolderPointsTHT: 0; Value: Value; ValueEx: ValueEx
footprint PBD-10SMD
pins: 1, 2, 3, 4, 5, 6, 7, 8, 9, 10

## PBD-14R
designator X?  (value not drawn)
CONNECTOR 2.54mm pitch , angled , female; Part Number: Value; Описание: ???; NumberSolderPointsSMD: 0; Аналог: нет; NumberSolderPointsTHT: 0; Value: Value; ValueEx: ValueEx
footprint PBD-14R
part A pins: 1
part B pins: 2
part C pins: 3
part D pins: 4
part E pins: 5
part F pins: 6
part G pins: 7
part H pins: 8
part I pins: 9
part J pins: 10
part K pins: 11
part L pins: 12
part M pins: 13
part N pins: 14

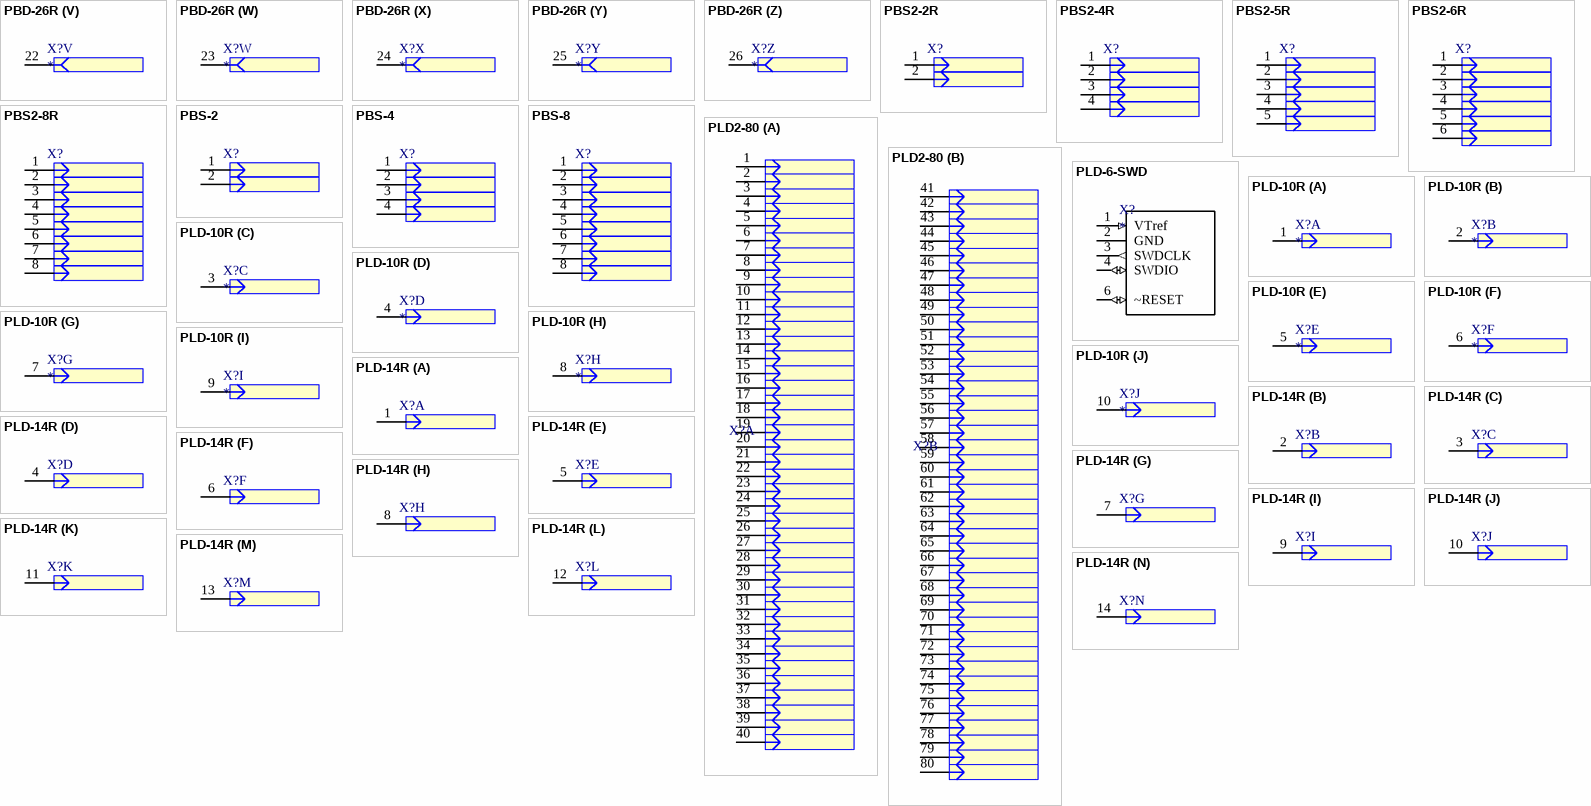
[diagram p6: symbols PBD-26R to PLD-14R]

## PBD-26R
designator X?
CONNECTOR 2.54mm pitch , angled , female; Part Number: Value; Описание: ???; NumberSolderPointsSMD: 0; Аналог: нет; NumberSolderPointsTHT: 0; Value: Value; ValueEx: ValueEx
footprint PBD-26R
part A pins: 1
part B pins: 2
part C pins: 3
part D pins: 4  
part E pins: 5
part F pins: 6
part G pins: 7
part H pins: 8
part I pins: 9
part J pins: 10
part K pins: 11
part L pins: 12
part M pins: 13
part N pins: 14
part O pins: 15
part P pins: 16
part Q pins: 17
part R pins: 18
part S pins: 19
part T pins: 20
part U pins: 21
part V pins: 22
part W pins: 23
part X pins: 24
part Y pins: 25
part Z pins: 26

## PBS2-2R
designator X?  (value not drawn)
CONNECTOR; Part Number: Value; Описание: ???; NumberSolderPointsSMD: 0; Аналог: нет; NumberSolderPointsTHT: 0; Value: Value; ValueEx: ValueEx
footprint PBS2-2R
pins: 1, 2

## PBS2-4R
designator X?  (value not drawn)
CONNECTOR; Part Number: Value; Описание: ???; NumberSolderPointsSMD: 0; Аналог: нет; NumberSolderPointsTHT: 0; Value: Value; ValueEx: ValueEx
footprint PBS2-4R
pins: 1, 2, 3, 4

## PBS2-5R
designator X?  (value not drawn)
CONNECTOR; Part Number: Value; Описание: ???; NumberSolderPointsSMD: 0; Аналог: нет; NumberSolderPointsTHT: 0; Value: Value; ValueEx: ValueEx
footprint PBS2-5R
pins: 1, 2, 3, 4, 5

## PBS2-6R
designator X?  (value not drawn)
CONNECTOR; Part Number: Value; Описание: ???; NumberSolderPointsSMD: 0; Аналог: нет; NumberSolderPointsTHT: 0; Value: Value; ValueEx: ValueEx
footprint PBS2-6R
pins: 1, 2, 3, 4, 5, 6

## PBS2-8R
designator X?  (value not drawn)
CONNECTOR; Part Number: Value; Описание: ???; NumberSolderPointsSMD: 0; Аналог: нет; NumberSolderPointsTHT: 0; Value: Value; ValueEx: ValueEx
footprint PBS2-8R
pins: 1, 2, 3, 4, 5, 6, 7, 8

## PBS-2
designator X?  (value not drawn)
CONNECTOR; Part Number: Value; Описание: ???; NumberSolderPointsSMD: 0; Аналог: нет; NumberSolderPointsTHT: 0; Value: Value; ValueEx: ValueEx
footprint PBS-2
pins: 1, 2

## PBS-4
designator X?  (value not drawn)
CONNECTOR; Part Number: Value; Описание: ???; NumberSolderPointsSMD: 0; Аналог: нет; NumberSolderPointsTHT: 0; Value: Value; ValueEx: ValueEx
footprint PBS-4
pins: 1, 2, 3, 4

## PBS-8
designator X?  (value not drawn)
CONNECTOR; Part Number: Value; Описание: ???; NumberSolderPointsSMD: 0; Аналог: нет; NumberSolderPointsTHT: 0; Value: Value; ValueEx: ValueEx
footprint PBS-8
pins: 1, 2, 3, 4, 5, 6, 7, 8

## PLD2-80
designator X?
CONNECTOR 2mm pitch , male; Part Number: Value; Описание: ???; NumberSolderPointsSMD: 0; Аналог: нет; NumberSolderPointsTHT: 0; Value: Value; ValueEx: ValueEx
footprint PLD2-80
part A pins: 1, 2, 3, 4, 5, 6, 7, 8, 9, 10, 11, 12, 13, 14, 15, 16, 17, 18, 19, 20, 21, 22, 23, 24, 25, 26, 27, 28, 29, 30, 31, 32, 33, 34, 35, 36, 37, 38, 39, 40
part B pins: 41, 42, 43, 44, 45, 46, 47, 48, 49, 50, 51, 52, 53, 54, 55, 56, 57, 58, 59, 60, 61, 62, 63, 64, 65, 66, 67, 68, 69, 70, 71, 72, 73, 74, 75, 76, 77, 78, 79, 80

## PLD-6-SWD
designator X?  (no BOM)
CONNECTOR PROGRAM 6-pin SWD connector; Part Number: Value; Описание: Разъем программатора; NumberSolderPointsSMD: 0; Аналог: нет; NumberSolderPointsTHT: 0; Value: Value; ValueEx: ValueEx
footprint PLD-6-SWD
pins: 1 VTref (in), 2 GND (power), 3 SWDCLK (out), 4 SWDIO (io), 6 ~RESET (io)

## PLD-10R
designator X?
CONNECTOR 2.54mm pitch , angled , male; Part Number: Value; Описание: ???; NumberSolderPointsSMD: 0; Аналог: нет; NumberSolderPointsTHT: 0; Value: Value; ValueEx: ValueEx
footprint PLD-10R
part A pins: 1
part B pins: 2
part C pins: 3
part D pins: 4
part E pins: 5
part F pins: 6
part G pins: 7
part H pins: 8
part I pins: 9
part J pins: 10

## PLD-14R
designator X?  (value not drawn)
CONNECTOR 2.54mm pitch , angled , male; Part Number: Value; Описание: ???; NumberSolderPointsSMD: 0; Аналог: нет; NumberSolderPointsTHT: 0; Value: Value; ValueEx: ValueEx
footprint PLD-14R
part A pins: 1
part B pins: 2
part C pins: 3
part D pins: 4
part E pins: 5
part F pins: 6
part G pins: 7
part H pins: 8
part I pins: 9
part J pins: 10
part K pins: 11
part L pins: 12
part M pins: 13
part N pins: 14

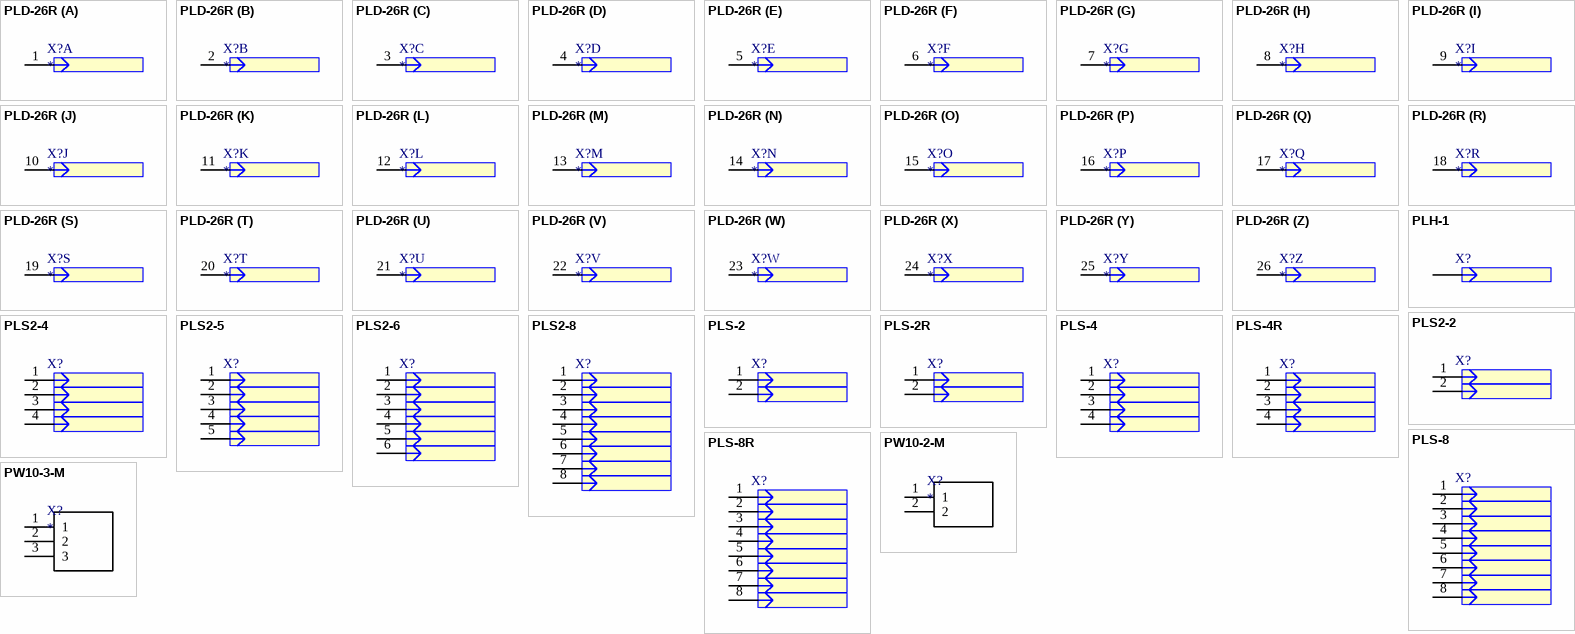
[diagram p7: symbols PLD-26R to PW10-3-M]

## PLD-26R
designator X?
CONNECTOR 2.54mm pitch , angled , male; Part Number: Value; Описание: ???; NumberSolderPointsSMD: 0; Аналог: нет; NumberSolderPointsTHT: 0; Value: Value; ValueEx: ValueEx
footprint PLD-26R
part A pins: 1
part B pins: 2
part C pins: 3
part D pins: 4
part E pins: 5
part F pins: 6
part G pins: 7
part H pins: 8
part I pins: 9
part J pins: 10
part K pins: 11
part L pins: 12
part M pins: 13
part N pins: 14
part O pins: 15
part P pins: 16
part Q pins: 17
part R pins: 18
part S pins: 19
part T pins: 20
part U pins: 21
part V pins: 22
part W pins: 23
part X pins: 24
part Y pins: 25
part Z pins: 26

## PLH-1
designator X?  (value not drawn)
CONNECTOR; Part Number: Value; Описание: ???; NumberSolderPointsSMD: 0; Аналог: нет; NumberSolderPointsTHT: 0; Value: Value; ValueEx: ValueEx
footprint PLH-1
pins: 1

## PLS2-2
designator X?  (value not drawn)
CONNECTOR; Part Number: Value; Описание: ???; NumberSolderPointsSMD: 0; Аналог: нет; NumberSolderPointsTHT: 0; Value: Value; ValueEx: ValueEx
footprint PLS2-2
pins: 1, 2

## PLS2-4
designator X?  (value not drawn)
CONNECTOR; Part Number: Value; Описание: ???; NumberSolderPointsSMD: 0; Аналог: нет; NumberSolderPointsTHT: 0; Value: Value; ValueEx: ValueEx
footprint PLS2-4
pins: 1, 2, 3, 4

## PLS2-5
designator X?  (value not drawn)
CONNECTOR; Part Number: Value; Описание: ???; NumberSolderPointsSMD: 0; Аналог: нет; NumberSolderPointsTHT: 0; Value: Value; ValueEx: ValueEx
footprint PLS2-5
pins: 1, 2, 3, 4, 5

## PLS2-6
designator X?  (value not drawn)
CONNECTOR; Part Number: Value; Описание: ???; NumberSolderPointsSMD: 0; Аналог: нет; NumberSolderPointsTHT: 0; Value: Value; ValueEx: ValueEx
footprint PLS2-6
pins: 1, 2, 3, 4, 5, 6

## PLS2-8
designator X?  (value not drawn)
CONNECTOR; Part Number: Value; Описание: ???; NumberSolderPointsSMD: 0; Аналог: нет; NumberSolderPointsTHT: 0; Value: Value; ValueEx: ValueEx
footprint PLS2-8
pins: 1, 2, 3, 4, 5, 6, 7, 8

## PLS-2
designator X?  (value not drawn)
CONNECTOR; Part Number: Value; Описание: ???; NumberSolderPointsSMD: 0; Аналог: нет; NumberSolderPointsTHT: 0; Value: Value; ValueEx: ValueEx
footprint PLS-2
pins: 1, 2

## PLS-2R
designator X?  (value not drawn)
CONNECTOR; Part Number: Value; Описание: ???; NumberSolderPointsSMD: 0; Аналог: нет; NumberSolderPointsTHT: 0; Value: Value; ValueEx: ValueEx
footprint PLS-2R
pins: 1, 2

## PLS-4
designator X?  (value not drawn)
CONNECTOR; Part Number: Value; Описание: ???; NumberSolderPointsSMD: 0; Аналог: нет; NumberSolderPointsTHT: 0; Value: Value; ValueEx: ValueEx
footprint PLS-4
pins: 1, 2, 3, 4

## PLS-4R
designator X?  (value not drawn)
CONNECTOR; Part Number: Value; Описание: ???; NumberSolderPointsSMD: 0; Аналог: нет; NumberSolderPointsTHT: 0; Value: Value; ValueEx: ValueEx
footprint PLS-4R
pins: 1, 2, 3, 4

## PLS-8
designator X?  (value not drawn)
CONNECTOR; Part Number: Value; Описание: ???; NumberSolderPointsSMD: 0; Аналог: нет; NumberSolderPointsTHT: 0; Value: Value; ValueEx: ValueEx
footprint PLS-8
pins: 1, 2, 3, 4, 5, 6, 7, 8

## PLS-8R
designator X?  (value not drawn)
CONNECTOR; Part Number: Value; Описание: ???; NumberSolderPointsSMD: 0; Аналог: нет; NumberSolderPointsTHT: 0; Value: Value; ValueEx: ValueEx
footprint PLS-8R
pins: 1, 2, 3, 4, 5, 6, 7, 8

## PW10-2-M
designator X?
CONNECTOR 2.5mm pitch; Part Number: Value; Описание: Разъем; NumberSolderPointsSMD: 0; Аналог: нет; NumberSolderPointsTHT: 0; Value: Value; ValueEx: ValueEx
footprint PW10-2-M
pins: 1, 2

## PW10-3-M
designator X?
CONNECTOR 2.5mm pitch; Part Number: Value; Описание: Разъем; NumberSolderPointsSMD: 0; Аналог: нет; NumberSolderPointsTHT: 0; Value: Value; ValueEx: ValueEx
footprint PW10-3-M
pins: 1, 2, 3

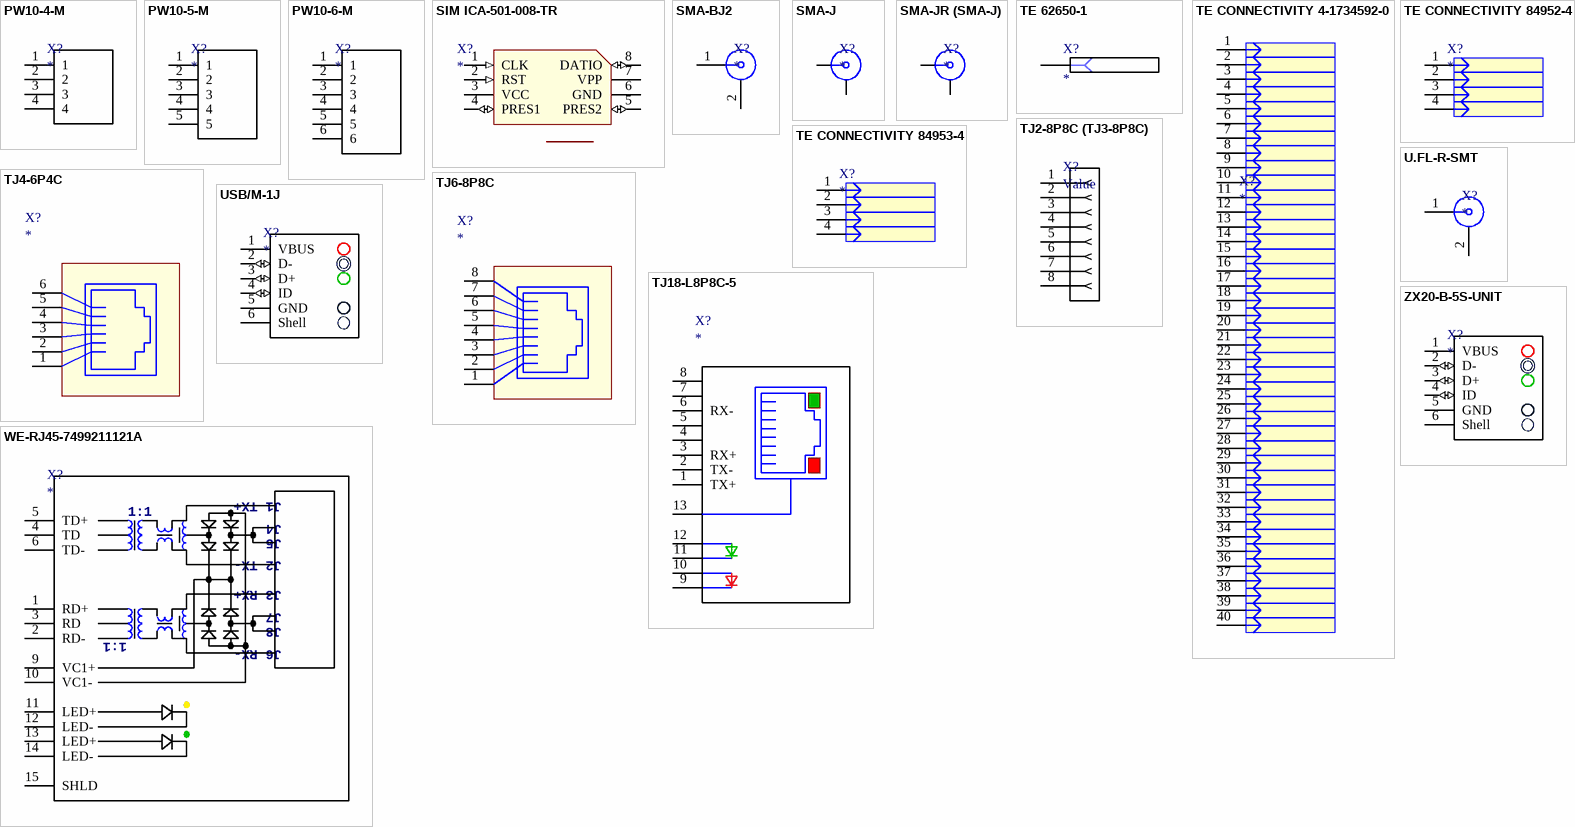
[diagram p8: symbols PW10-4-M to ZX20-B-5S-UNIT]

## PW10-4-M
designator X?
CONNECTOR 2.5mm pitch; Part Number: Value; Описание: Разъем; NumberSolderPointsSMD: 0; Аналог: нет; NumberSolderPointsTHT: 0; Value: Value; ValueEx: ValueEx
footprint PW10-4-M
pins: 1, 2, 3, 4

## PW10-5-M
designator X?
CONNECTOR 2.5mm pitch; Part Number: Value; Описание: Разъем; NumberSolderPointsSMD: 0; Аналог: нет; NumberSolderPointsTHT: 0; Value: Value; ValueEx: ValueEx
footprint PW10-5-M
pins: 1, 2, 3, 4, 5

## PW10-6-M
designator X?
CONNECTOR 2.5mm pitch; Part Number: Value; Описание: Разъем; NumberSolderPointsSMD: 0; Аналог: нет; NumberSolderPointsTHT: 0; Value: Value; ValueEx: ValueEx
footprint PW10-6-M
pins: 1, 2, 3, 4, 5, 6

## SIM ICA-501-008-TR
designator X?
CONNECTOR SIM card holder 8 pins; Part Number: Value; Описание: ???; NumberSolderPointsSMD: 0; Аналог: нет; NumberSolderPointsTHT: 0; Value: Value; ValueEx: ValueEx
footprint SIM ICA-501-008-TR
pins: 1 CLK (in), 2 RST (in), 3 VCC (power), 4 PRES1 (io), 5 PRES2 (io), 6 GND (power), 7 VPP, 8 DATIO (io)

## SMA-BJ2
designator X?
CONNECTOR SMA connector - straight with flange; Part Number: Value; Описание: Разъем; NumberSolderPointsSMD: 0; Аналог: нет; NumberSolderPointsTHT: 0; Value: Value; ValueEx: ValueEx
footprint SMA-BJ2
pins: 1, 2

## SMA-J
designator X?
CONNECTOR SMA FEMALE; Part Number: Value; Описание: Разъем; NumberSolderPointsSMD: 0; Аналог: нет; Комплект: SMA-C174P; NumberSolderPointsTHT: 0; Value: Value; ValueEx: ValueEx
footprint SMA-J
pins: 1, 2

## SMA-JR (SMA-J)
designator X?
CONNECTOR SMA FEMALE; Part Number: Value; Описание: Разъем коаксиальный; NumberSolderPointsSMD: 0; Аналог: нет; Комплект: SMA-C174P, кабель RG-174; NumberSolderPointsTHT: 0; Value: Value; ValueEx: ValueEx
footprint SMA-JR
pins: 1, 2

## TE 62650-1
designator X?
CONNECTOR 6.3mm tab; Part Number: Value; Аналог: нет; Описание: ???; Value: Value; ValueEx: ValueEx
footprint 62650-1
pins: 1

## TE CONNECTIVITY 4-1734592-0
designator X?
CONNECTOR FPC pitch=0.5mm p=40 right-angle bottom-contact; Part Number: Value; Описание: Разъем; NumberSolderPointsSMD: 0; Аналог: нет; NumberSolderPointsTHT: 0; Value: Value; ValueEx: ValueEx
footprint 4-1734592-0
pins: 1, 2, 3, 4, 5, 6, 7, 8, 9, 10, 11, 12, 13, 14, 15, 16, 17, 18, 19, 20, 21, 22, 23, 24, 25, 26, 27, 28, 29, 30, 31, 32, 33, 34, 35, 36, 37, 38, 39, 40

## TE CONNECTIVITY 84952-4
designator X?
CONNECTOR FPC pitch=1mm p=4 right-angle bottom-contact; Part Number: Value; Описание: Разъем; NumberSolderPointsSMD: 0; Аналог: нет; NumberSolderPointsTHT: 0; Value: Value; ValueEx: ValueEx
footprint 84952-4
pins: 1, 2, 3, 4

## TE CONNECTIVITY 84953-4
designator X?
CONNECTOR FPC pitch=1mm p=4 right-angle top-contact; Part Number: Value; Описание: Разъем; NumberSolderPointsSMD: 0; Аналог: нет; NumberSolderPointsTHT: 0; Value: Value; ValueEx: ValueEx
footprint 84952-4
pins: 1, 2, 3, 4

## TJ2-8P8C (TJ3-8P8C)
designator X?, comment Value
CONNECTOR RJ45; Описание: Разъем RJ45; NumberSolderPointsSMD: 0; Аналог: нет; NumberSolderPointsTHT: 0; Part Number: Value; Value: Value; ValueEx: ValueEx
footprint TJ2-8P8C (TJ3-8P8C)
pins: 1, 2, 3, 4, 5, 6, 7, 8

## TJ4-6P4C
designator X?
CONNECTOR RJ1...; Part Number: Value; Описание: ???; NumberSolderPointsSMD: 0; Аналог: нет; NumberSolderPointsTHT: 0; Value: Value; ValueEx: ValueEx
footprint TJ4-6P4C
pins: 1  , 2  , 3  , 4  , 5  , 6  

## TJ6-8P8C
designator X?
CONNECTOR RJ45; Part Number: Value; Описание: ???; NumberSolderPointsSMD: 0; Аналог: нет; NumberSolderPointsTHT: 0; Value: Value; ValueEx: ValueEx
footprint TJ6-8P8C
pins: 1  , 2  , 3  , 4  , 5  , 6  , 7  , 8  

## TJ18-L8P8C-5
designator X?
CONNECTOR RJ45; Part Number: Value; Описание: Разъем RJ45; NumberSolderPointsSMD: 0; Аналог: нет; NumberSolderPointsTHT: 0; Value: Value; ValueEx: ValueEx
footprint TJ18-L8P8C-5
pins: 1 TX+, 2 TX-, 3 RX+, 4, 5, 6 RX-, 7, 8, 9 RedLED+, 10 RedLED-, 11 GreenLED+, 12 GreenLED-, 13 Case1

## U.FL-R-SMT
designator X?
CONNECTOR U.FL; Part Number: Value; Описание: ???; NumberSolderPointsSMD: 0; Аналог: нет; NumberSolderPointsTHT: 0; Value: Value; ValueEx: ValueEx
footprint U.FL-R-SMT
pins: 1, 2

## USB/M-1J
designator X?
CONNECTOR USB mini B; Part Number: Value; Описание: Разъем USB mini; NumberSolderPointsSMD: 0; Аналог: нет; NumberSolderPointsTHT: 0; Value: Value; ValueEx: ValueEx
footprint USB/M-1J
pins: 1 VBUS (power), 2 D- (io), 3 D+ (io), 4 ID (io), 5 GND, 6 Shell

## WE-RJ45-7499211121A
designator X?
CONNECTOR RJ45; Part Number: Value; Описание: Разъем; NumberSolderPointsSMD: 0; Аналог: нет; NumberSolderPointsTHT: 0; Value: Value; ValueEx: ValueEx
footprint WE-RJ45-7499211121A
pins: 1 RD+, 2 RD-, 3 RD, 4 TD, 5 TD+, 6 TD-, 9 VC1+, 10 VC1-, 11 LED+, 12 LED-, 13 LED+, 14 LED-, 15 SHLD
text: J1 TX+; 1:1; J4; J5; J2 TX-; J3 RX+; J7; J8; J6 RX-

## ZX20-B-5S-UNIT
designator X?
CONNECTOR USB micro B; Part Number: Value; Описание: Разъем USB micro B; NumberSolderPointsSMD: 0; Аналог: нет; Комплект: ZX20-B-SLDC; NumberSolderPointsTHT: 0; Value: Value; ValueEx: ValueEx
footprint ZX20-B-5S-UNIT
pins: 1 VBUS (power), 2 D- (io), 3 D+ (io), 4 ID (io), 5 GND, 6 Shell